# Altium schematic symbol library Master JULY2019.SchLib: 264 symbols (part 4 of 4)
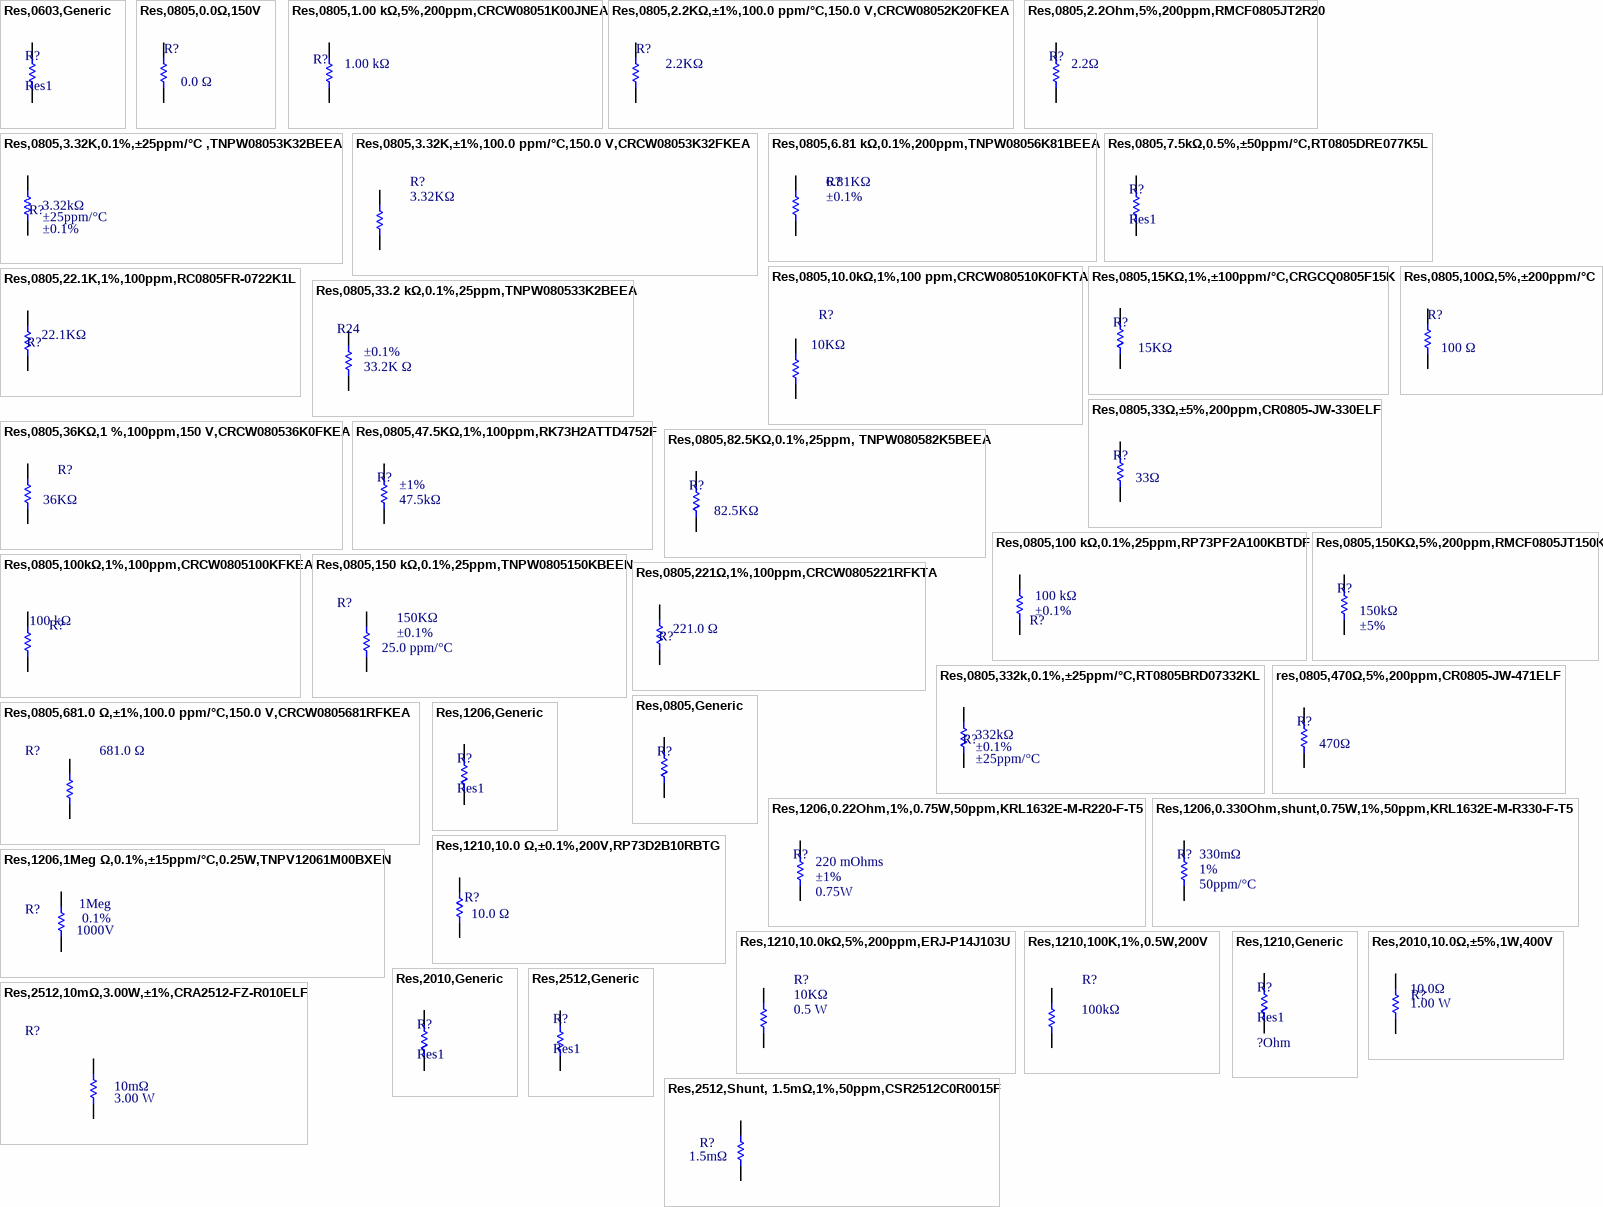
[diagram p12: symbols Res,0603,Generic to Res,2512,Shunt, 1.5mΩ,1%,50ppm,CSR2512C0R0015F]

## Res,0805,1.00 kΩ,5%,200ppm,CRCW08051K00JNEA
designator R?, comment Resistance: 1.00 kΩ  (hidden comment: Vishay CRCW08051K00JNEA)
Res Thick Film 0805 1K Ohm 5% 0.125W(1/8W) ±200ppm/C Molded SMD Automotive Paper T/R; Power Rating: 125 mW; Case/Package (SI): 2012; Lead-Free Status: Lead Free; Temperature Coefficient: 200 ppm/°C; Voltage Rating (DC): 150 V; Size-Width: 1.25 mm; Mounting Style: Surface Mount; REACH SVHC Compliance: No SVHC; Manufacturer Part Number: CRCW08051K00JNEA; Number of Pins: 2; Size-Height: 450 µm; Packaging: Tape & Reel (TR), Cut Tape (CT); RoHS: Compliant; Resistance Tolerance: ±5%; Case/Package: 0805; Size-Length: 2.00 mm
footprint res, 0805, HD (Resistor, 0805, High Density foot print)
pins: 1, 2

## Res,0805,2.2KΩ,±1%,100.0 ppm/°C,150.0 V,CRCW08052K20FKEA
designator R?, comment Resistance: 2.2KΩ  (hidden comment: Res1)
RES SMD 2.2K OHM 1% 1/8W 0805; Case/Package (SI): 2012; Lead-Free Status: Lead Free; Power Rating: 0.125 W; Temperature Coefficient: 100.0 ppm/°C; Voltage Rating (DC): 150.0 V; mfg P/N: CRCW08052K20FKEA; Case/Package: 0805; Mounting Style: Surface Mount; Number of Pins: 2; Octopart Url: https://octopart.com/crcw08052k20fkea-vishay-39783534; REACH SVHC Compliance: No SVHC; Resistance Tolerance: ±1%; RoHS: Compliant; Size-Height: 0.00045 m; Size-Length: 0.002 m; Size-Width: 0.00125 m
footprint res, 0805, HD (Resistor, 0805, High Density foot print)
pins: 1, 2
1 alternate drawing of the same symbol

## Res,0805,2.2Ohm,5%,200ppm,RMCF0805JT2R20
designator R?  Resistance: 2.2Ω  (hidden comment: *)
RES 2.2 OHM 5% 1/8W 0805; Manufacturer 1: Stackpole Electronics; Manufacturer Part Number 1: RMCF0805JT2R20; Max Power Dissipation: 125mW; Temperature Coefficient: 200ppm/°C; Supplier 1: Digi-Key; Stock 1: 13685; Pricing 1: 1=0.10000, 10=0.02000, 100=0.00820, 1000=0.00367, 2500=0.00319 (USD); RoHS: Yes; Mount: Surface Mount; Case/Package: 0805; Case Code (Metric): 2012; Case Code (Imperial): 0805; Contact Plating: Tin; Min Operating Temperature: -55°C; Max Operating Temperature: 155°C; Tolerance: 5%; Packaging: Tape and Reel; Composition: Thick Film; Number of Terminations: 2; Features: Automotive AEC-Q200; Length: 0.079inch; Height: 0.026inch; Width: 0.049inch; Radiation Hardening: No; Lead Free: Lead Free; ComponentLink1URL: https://www.seielect.com/catalog/SEI-RMCF_RMCP.pdf?src-supplier=Avnet; ComponentLink1Description: https://www.seielect.com/catalog/SEI-RMCF_RMCP.pdf?src-supplier=Avnet; ComponentLink2URL: https://www.seielect.com/Catalog/SEI-RMCF_RMCP.pdf?src-supplier=Digi-Key; ComponentLink2Description: https://www.seielect.com/Catalog/SEI-RMCF_RMCP.pdf?src-supplier=Digi-Key; ComponentLink3URL: https://www.seielect.com/catalog/SEI-Packaging.pdf?src-supplier=Digi-Key; ComponentLink3Description: https://www.seielect.com/catalog/SEI-Packaging.pdf?src-supplier=Digi-Key; Supplier Part Number 1: RMCF0805JT2R20CT-ND
footprint res, 0805, HD (Resistor, 0805, High Density foot print)
pins: 1, 2

## Res,0805,3.32K,0.1%,±25ppm/°C ,TNPW08053K32BEEA
designator R?, comment Temperature Coefficient: ±25ppm/°C  Resistance: 3.32kΩ  Resistance Tolerance: ±0.1%  (hidden comment: Vishay Dale TNPW08053K32BEEA)
RES SMD 3.32K OHM 0.1% 1/8W 0805; Lead-Free Status: Lead Free; Power Rating: 0.125 W; Voltage Rating (DC): 75.0 V; Case/Package: 0805; Octopart Url: https://octopart.com/tnpw08053k32beea-vishay-42327873; Packaging: Tape & Reel (TR); RoHS: Compliant
footprint res, 0805, HD (Resistor, 0805, High Density foot print)
pins: 1, 2
1 alternate drawing of the same symbol

## Res,0805,3.32K,±1%,100.0 ppm/°C,150.0 V,CRCW08053K32FKEA
designator R?, comment Resistance: 3.32KΩ  (hidden comment: Res1)
RES SMD 3.32K OHM 1% 1/8W 0805; Case/Package (SI): 2012; Lead-Free Status: Lead Free; Power Rating: 0.125 W; Temperature Coefficient: 100.0 ppm/°C; Voltage Rating (DC): 150.0 V; mfg P/N: CRCW08053K32FKEA; Case/Package: 0805; Mounting Style: Surface Mount; Number of Pins: 2; Octopart Url: https://octopart.com/crcw08053k32fkea-vishay-39436860; REACH SVHC Compliance: No SVHC; Resistance Tolerance: ±1%; RoHS: Compliant; Size-Height: 0.00045 m; Size-Length: 0.002 m; Size-Width: 0.00125 m
footprint res, 0805, HD (Resistor, 0805, High Density foot print)
pins: 1, 2
1 alternate drawing of the same symbol

## Res,0805,6.81 kΩ,0.1%,200ppm,TNPW08056K81BEEA
designator R?, comment Resistance: 6.81KΩ  Resistance Tolerance: ±0.1%  (hidden comment: Res1)
Thin Film Resistors - SMD 6.81Kohms .1% 25ppm; Power Rating: 0.125 W; Voltage Rating (DC): 75.0 V; Temperature Coefficient: ±25ppm/°C; Power (Watts): 0.2W; Case/Package: 0805; Packaging: Tape & Reel (TR); RoHS: Compliant
footprint res, 0805, HD (Resistor, 0805, High Density foot print)
pins: 1, 2
1 alternate drawing of the same symbol

## Res,0805,7.5kΩ,0.5%,±50ppm/°C,RT0805DRE077K5L
designator R?, comment Res1
RES SMD 7.5K OHM 0.5% 1/8W 0805; Manufacturer: Yageo; mfg P/N: RT0805DRE077K5L; Detailed Description: 7.5 kOhms ±0.5% 0.125W, 1/8W Chip Resistor 0805 (2012 Metric) Thin Film; Categories: Resistors   Chip Resistor - Surface Mount; Resistance: 7.5 kΩ; Power (Watts): 0.125W, 1/8W; Temperature Coefficient: ±50ppm/°C; Package / Case 0805: (2012 Metric); Part Status: Active; Tolerance: ±0.5%; Composition: Thin Film; Operating Temperature: -55°C ~ 155°C; Supplier Device Package: 0805; Size / Dimension: 0.079" L x 0.049" W (2.00mm x 1.25mm); Height - Seated (Max): 0.024" (0.60mm); Number of Terminations: 2
footprint res, 0805, HD (Resistor, 0805, High Density foot print)
pins: 1, 2

## Res,0805,10.0kΩ,1%,100 ppm,CRCW080510K0FKTA
designator R?, comment Resistance: 10KΩ  (hidden comment: Vishay / Dale CRCW080510K0FKTA)
RES SMD 10K OHM 1% 1/8W 0805; Temperature Coefficient: 100.0 ppm/C; Lead-Free Status: Contains Lead; Voltage Rating (DC): 150.0 V; Power Rating: 0.125 W; Case/Package (SI): 2012; Size-Width: 0.00125 m; Resistance Tolerance: 1%; Size-Length: 0.002 m; RoHS: Non-Compliant; Power Dissipation: 0.125 W; Number of Pins: 2; REACH SVHC Compliance: No SVHC; Size-Height: 0.00045 m; Case/Package: 0805; Mounting Style: Surface Mount
footprint res, 0805, HD (Resistor, 0805, High Density foot print)
pins: 1, 2

## Res,0805,15KΩ,1%,±100ppm/°C,CRGCQ0805F15K
designator R?, comment Resistance: 15KΩ  (hidden comment: CRGCQ0805F15K)
15 kOhms ±1% 0.125W, 1/8W Chip Resistor 0805 (2012 Metric) Automotive AEC-Q200, Moisture Resistant Thick Film; Temperature Coefficient: ±100ppm/°C; mfg P/N: CRGCQ0805F15K; Tolerance: ±1%; Power (Watts): 0.125W, 1/8W; Composition: Thick Film; Features: Automotive AEC-Q200, Moisture Resistant; Operating Temperature: -55°C ~ 155°C; Package / Case: 0805 (2012 Metric); Supplier Device Package: 0805
footprint res, 0805, HD (Resistor, 0805, High Density foot print)
pins: 1, 2

## Res,0805,22.1K,1%,100ppm,RC0805FR-0722K1L
designator R?, comment Resistance: 22.1KΩ  (hidden comment: RC0805FR-0722K1L)
22.1 kOhms ±1% 0.125W, 1/8W Chip Resistor 0805 (2012 Metric) Moisture Resistant Thick Film; Case/Package (SI): 2012; Temperature Coefficient: 100.0 ppm/°C; Voltage Rating (DC): 150.0 V; Case/Package: 0805; Mounting Style: Surface Mount; Number of Pins: 2; Power Rating: 0.125 W; Resistance Tolerance: ±1%; Size-Height: 0.00045 m; Size-Length: 0.002 m; Size-Width: 0.00125 m; Features: Moisture Resistant; Operating Temperature: -55°C ~ 155°C
footprint res, 0805, HD (Resistor, 0805, High Density foot print)
pins: 1, 2
1 alternate drawing of the same symbol

## Res,0805,33.2 kΩ,0.1%,25ppm,TNPW080533K2BEEA
designator R24, comment Resistance: 33.2K Ω  Resistance Tolerance: ±0.1%  (hidden comment: Vishay Dale TNPW080533K2BEEA)
Thin Film Resistors - SMD 33.2Kohms .1% 25ppm; Lead-Free Status: Lead Free; Power Rating: 0.125 W; Voltage Rating (DC): 75.0 V; Temperature Coefficient: ±25ppm/°C; Power (Watts): 0.2W; Case/Package: 0805; Packaging: Tape & Reel (TR); RoHS: Compliant
footprint res, 0805, HD (Resistor, 0805, High Density foot print)
pins: 1, 2
1 alternate drawing of the same symbol

## Res,0805,33Ω,±5%,200ppm,CR0805-JW-330ELF
designator R?, comment Resistance: 33Ω  (hidden comment: CR0805-JW-330ELF)
RES SMD 33 OHM 5% 1/8W 0805; Manufacturer: Bourns Inc.; Detailed Description: 33 Ohms ±5% 0.125W, 1/8W Chip Resistor 0805 (2012 Metric) Moisture Resistant Thick Film; Categories: Resistors   Chip Resistor - Surface Mount; Power (Watts): 0.125W, 1/8W; Temperature Coefficient: ±200ppm/°C; mfg P/N: CR0805-JW-330ELF; Series: CR0805; Part Status: Active; Tolerance: ±5%; Composition: Thick Film; Features: Moisture Resistant; Operating Temperature: -55°C ~ 155°C; Package / Case: 0805 (2012 Metric); Supplier Device Package: 0805; Size / Dimension: 0.079" L x 0.049" W (2.00mm x 1.25mm); Height - Seated (Max): 0.024" (0.60mm); Number of Terminations: 2; Base Part Number: CR0805
footprint res, 0805, HD (Resistor, 0805, High Density foot print)
pins: 1, 2

## Res,0805,36KΩ,1 %,100ppm,150 V,CRCW080536K0FKEA
designator R?, comment Resistance: 36KΩ  (hidden comment: Vishay Dale CRCW080536K0FKEA)
RES SMD 36K OHM 1% 1/8W 0805; Brand: Vishay / Dale; Voltage Rating: 150 V; Case Height: 0.45 mm; Case Length: 2 mm; Power Rating: 125 mW (1/8 W); Unit Weight: 0.000194 oz; CiivaID: 1867605; Case Width: 1.25 mm; Temperature Coefficient: 100 PPM / K; Operating Temperature Range: - 55 C to + 155 C; Termination Style: SMD/SMT; Manufacturer: Vishay; Product Category: Thick Film Resistors - SMD; Case Code - in: 0805; Tolerance: 1 %; Packaging: Reel; Factory Pack Quantity: 5000; Dimensions: 1.25 mm W x 2 mm L x 0.45 mm H; Ciiva URL: https://ciiva.com/part/crcw080536k0fkea-1867605; Package / Case: 0805 (2012 metric); Case Code - mm: 2012; mfg P\N: CRCW080536K0FKEA; Series: CRCW; Product: Thick Film Resistors SMD; RoHS: Details
footprint res, 0805, HD (Resistor, 0805, High Density foot print)
pins: 1, 2
1 alternate drawing of the same symbol

## Res,0805,47.5KΩ,1%,100ppm,RK73H2ATTD4752F
designator R?, comment Resistance: 47.5kΩ  Tolerance: ±1%  (hidden comment: RK73H2ATTD4752F)
47.5 kOhms ±1% 0.25W, 1/4W Chip Resistor 0805 (2012 Metric) Automotive AEC-Q200, Moisture Resistant Thick Film; Manufacturer: KOA Speer Electronics, Inc.; Temperature Coefficient: ±100ppm/°C; Detailed Description: 47.5 kOhms ±1% 0.25W, 1/4W Chip Resistor 0805 (2012 Metric) Automotive AEC-Q200, Moisture Resistant Thick Film; mfg P/N: RK73H2ATTD4752F; Power (Watts): 0.25W, 1/4W; Composition: Thick Film; Features: Automotive AEC-Q200, Moisture Resistant; Operating Temperature: -55°C ~ 155°C; Package / Case 0805: (2012 Metric); Supplier Device Package: 0805; Size / Dimension: 0.079" L x 0.049" W (2.00mm x 1.25mm); Height - Seated (Max): 0.024" (0.60mm); Number of Terminations: 2
footprint res, 0805, HD (Resistor, 0805, High Density foot print)
pins: 1, 2

## Res,0805,82.5KΩ,0.1%,25ppm, TNPW080582K5BEEA
designator R?, comment Resistance: 82.5KΩ  (hidden comment: TNPW080582K5BEEA)
82.5 kOhms ±0.1% 0.2W, 1/5W Chip Resistor 0805 (2012 Metric) Anti-Sulfur, Automotive AEC-Q200, Moisture Resistant Thin Film; Manufacturer: Vishay Dale; Temperature Coefficient: ±25ppm/°C; mfg P/N: TNPW080582K5BEEA; Tolerance: ±0.1%; Power (Watts): 0.2W, 1/5W; Composition: Thin Film; Features: Anti-Sulfur, Automotive AEC-Q200, Moisture Resistant; Operating Temperature: -55°C ~ 155°C; Package / Case: 0805 (2012 Metric); Supplier Device Package: 0805
footprint res, 0805, HD (Resistor, 0805, High Density foot print)
pins: 1, 2

## Res,0805,100 kΩ,0.1%,25ppm,RP73PF2A100KBTDF
designator R?, comment Resistance: 100 kΩ  Resistance Tolerance: ±0.1%  (hidden comment: TE Connectivity RP73PF2A100KBTDF)
Surface Mount Thin Film Resistor, RP73 Series, 100 kohm, 250 mW, - 0.1%, 150 V; Voltage Rating (DC): 150 V; Power Rating: 250 mW; ELV Compliant: Compliant; Temperature Coefficient: ±25ppm/°C; RoHS: Compliant; Manufacturer Part Number: RP73PF2A100KBTDF; Case/Package: 0805, 2012; Mounting Style: Surface Mount; Lifecycle Status: Active; Packaging: Tape & Reel (TR); REACH SVHC Compliance: No SVHC
footprint res, 0805, HD (Resistor, 0805, High Density foot print)
pins: 1, 2

## Res,0805,100kΩ,1%,100ppm,CRCW0805100KFKEA
designator R?  Resistance: 100 kΩ  (hidden comment: Res,0805,100kΩ,1%,100ppm,CRCW0805100KFKEA)
100 kOhms ±1% 0.125W, 1/8W Chip Resistor 0805 (2012 Metric) Thick Film; Manufacturer: Vishay; Lead-Free Status: Lead Free; Case/Package (SI): 2012; Power Rating: 125 mW; Temperature Coefficient: -100 ppm/°C to 100 ppm/°C; Resistance Tolerance: ±1%; RoHS: Compliant; Manufacturer Part Number: CRCW0805100KFKEA; Number of Pins: 2; Size-Length: 2.00 mm; Packaging: Tape & Reel (TR), Reel, Cut Tape (CT); Size-Height: 450 µm; Case/Package: 0805; Size-Width: 1.25 mm; Operating Temperature: 150 °C (max); Supplier 1 Part Number: 679-0803; Supplier 1: RS
footprint res, 0805, HD (Resistor, 0805, High Density foot print)
pins: 1, 2

## Res,0805,100Ω,5%,±200ppm/°C
designator R?, comment Resistance: 100 Ω  (hidden comment: CRCW0805100RJNEAC)
RES 100 OHM 5% 1/8W 0805; Lead-Free Status: Lead Free; Power Rating: 0.125 W; Detailed Description: 100 Ohms ±5% 0.125W, 1/8W Chip Resistor 0805 (2012 Metric) Thick Film; Temperature Coefficient: ±200ppm/°C; Case/Package: 0805 (2012 Metric); Number of Pins: 2; RoHS: Compliant; mfg P/N: CRCW0805100RJNEAC; Tolerance: ±5%; Operating Temperature: -55°C ~ 155°C
footprint res, 0805, HD (Resistor, 0805, High Density foot print)
pins: 1, 2
1 alternate drawing of the same symbol

## Res,0805,150 kΩ,0.1%,25ppm,TNPW0805150KBEEN
designator R?, comment Resistance: 150KΩ  Resistance Tolerance: ±0.1%  Temperature Coefficient: 25.0 ppm/°C  (hidden comment: Vishay Dale TNPW0805150KBEEN)
RES SMD 150K OHM 0.1% 1/8W 0805; Case/Package (SI): 2012; Lead-Free Status: Lead Free; Power Rating: 0.125 W; Voltage Rating (DC): 100.0 V; Case/Package: 0805; RoHS: Compliant
footprint res, 0805, HD (Resistor, 0805, High Density foot print)
pins: 1, 2
1 alternate drawing of the same symbol

## Res,0805,150KΩ,5%,200ppm,RMCF0805JT150K
designator R?, comment Resistance: 150kΩ  Tolerance: ±5%  (hidden comment: RMCF0805JT150K)
RES 150K OHM 5% 1/8W 0805; Manufacturer: Stackpole Electronics Inc; Detailed Description: 150 kOhms ±5% 0.125W, 1/8W Chip Resistor 0805 (2012 Metric) Automotive AEC-Q200 Thick Film; Power (Watts): 0.125W, 1/8W; Temperature Coefficient: ±200ppm/°C; mfg P/N: RMCF0805JT150K; Part Status: Active; Composition: Thick Film; Features: Automotive AEC-Q200; Operating Temperature: -55°C ~ 155°C; Package / Case: 0805 (2012 Metric); Supplier Device: 0805; Size / Dimension: 0.079" L x 0.049" W (2.00mm x 1.25mm); Height - Seated (Max): 0.026" (0.65mm); Number of Terminations: 2
footprint res, 0805, HD (Resistor, 0805, High Density foot print)
pins: 1, 2

## Res,0805,221Ω,1%,100ppm,CRCW0805221RFKTA
designator R?, comment Resistance: 221.0 Ω  (hidden comment: Vishay Dale CRCW0805221RFKTA)
RES SMD 221 OHM 1% 1/8W 0805; Case/Package (SI): 2012; Lead-Free Status: Contains Lead; Power Dissipation: 0.125 W; Temperature Coefficient: 100.0 ppm/°C; Voltage Rating (DC): 150.0 V; Case/Package: 0805; Mounting Style: Surface Mount; Number of Pins: 2; Power Rating: 0.125 W; Resistance Tolerance: ±1%; RoHS: Non-Compliant; Size-Height: 0.00045 m; Size-Length: 0.002 m; Size-Width: 0.00125 m
footprint res, 0805, HD (Resistor, 0805, High Density foot print)
pins: 1, 2
1 alternate drawing of the same symbol

## Res,0805,332k,0.1%,±25ppm/°C,RT0805BRD07332KL
designator R?, comment Temperature Coefficient: ±25ppm/°C  Resistance: 332kΩ  Resistance Tolerance: ±0.1%  (hidden comment: Res1)
Thin Film Resistors - SMD 1/8W 332K ohm .1% 25ppm; Case/Package (SI): 2012; Lead-Free Status: Lead Free; Power Rating: 0.125 W; Voltage Rating (DC): 150.0 V; Case/Package: 0805; Mounting Style: Surface Mount; Octopart Url: https://octopart.com/rt0805brd07332kl-yageo-1395583; RoHS: Compliant; Size-Height: 0.0005 m; Size-Length: 0.002 m; Size-Width: 0.00125 m
footprint res, 0805, HD (Resistor, 0805, High Density foot print)
pins: 1, 2
1 alternate drawing of the same symbol

## res,0805,470Ω,5%,200ppm,CR0805-JW-471ELF
designator R?, comment Resistance: 470Ω  (hidden comment: Res1)
RES SMD 470 OHM 5% 1/8W 0805; Manufacturer: Bourns Inc.; mfg P/N: CR0805-JW-471ELF; Detailed Description: 470 Ohms ±5% 0.125W, 1/8W Chip Resistor 0805 (2012 Metric) Moisture Resistant Thick Film; Categories: Resistors   Chip Resistor - Surface Mount; Power (Watts): 0.125W, 1/8W; Temperature Coefficient: ±200ppm/°C; Part Status: Active; Tolerance: ±5%; Composition: Thick Film; Features: Moisture Resistant; Operating Temperature: -55°C ~ 155°C; Package / Case: 0805 (2012 Metric); Supplier Device Package: 0805; Size / Dimension: 0.079" L x 0.049" W (2.00mm x 1.25mm); Height - Seated (Max): 0.024" (0.60mm); Number of Terminations: 2; Base Part Number: CR0805
footprint res, 0805, HD (Resistor, 0805, High Density foot print)
pins: 1, 2

## Res,0805,681.0 Ω,±1%,100.0 ppm/°C,150.0 V,CRCW0805681RFKEA
designator R?, comment Resistance: 681.0 Ω  (hidden comment: Res1)
RES SMD 681 OHM 1% 1/8W 0805; Case/Package (SI): 2012; Lead-Free Status: Lead Free; Power Rating: 0.125 W; Temperature Coefficient: 100.0 ppm/°C; Voltage Rating (DC): 150.0 V; mfg P/N: CRCW0805681RFKEA; Case/Package: 0805; Mounting Style: Surface Mount; Number of Pins: 2; Octopart Url: https://octopart.com/crcw0805681rfkea-vishay-39820193; REACH SVHC Compliance: No SVHC; Resistance Tolerance: ±1%; RoHS: Compliant; Size-Height: 0.00045 m; Size-Length: 0.002 m; Size-Width: 0.00125 m
footprint res, 0805, HD (Resistor, 0805, High Density foot print)
pins: 1, 2
1 alternate drawing of the same symbol

## Res,0805,Generic
designator R?, comment Res1  (value not drawn)
Resistance: ?; Tolerance: *; PPM: *; Wattage: *
footprint res, 0805, HD (Resistor, 0805, High Density foot print)
pins: 1, 2

## Res,1206,0.22Ohm,1%,0.75W,50ppm,KRL1632E-M-R220-F-T5
designator R?, comment Resistance: 220 mOhms  Tolerance: ±1%  Power (Watts): 0.75W  (hidden comment: KRL1632E-M-R220-F-T5)
RES 0.22 OHM 1% 3/4W 1206; Manufacturer: Susumu; Detailed Description: 220 mOhms ±1% 0.75W, 3/4W Chip Resistor 1206 (3216 Metric) Automotive AEC-Q200, Current Sense Metal Foil; mfg P/N: KRL1632E-M-R220-F-T5; Part Status: Active; Composition: Metal Foil; Features: Automotive AEC-Q200, Current Sense; Temperature: Coefficient ±50ppm/°C; Operating Temperature: -55°C ~ 155°C; Package / Case: 1206 (3216 Metric); Supplier Device Package: 1206; Size / Dimension: 0.126" L x 0.063" W (3.20mm x 1.60mm); Height - Seated (Max): 0.028" (0.70mm); Number of Terminations: 2
footprint Res,1206 (1206 resistor)
pins: 1, 2

## Res,1206,0.330Ohm,shunt,0.75W,1%,50ppm,KRL1632E-M-R330-F-T5
designator R?  Resistance: 330mΩ  Tolerance: 1%  Temperature Coefficient: 50ppm/°C  (hidden comment: *)
RES 0.33 OHM 1% 3/4W 1206; Manufacturer 1: Susumu; Manufacturer Part Number 1: KRL1632E-M-R330-F-T5; Power Rating: 750mW; Supplier 1: Digi-Key; Stock 1: 23015; Pricing 1: 1=0.54000, 10=0.38500, 25=0.30040, 50=0.25420, 100=0.20020, 250=0.16940, 500=0.13860, 1000=0.10780 (USD); RoHS: Yes; Case/Package: Metal; Weight: 0.000466oz; Case Code (Metric): 1632; Case Code (Imperial): 0612; Min Operating Temperature: -55°C; Max Operating Temperature: 155°C; Packaging: Tape and Reel; Composition: Metal Foil; Termination: SMD/SMT; Length: 3.2mm; Height: 0.5mm; Width: 1.6mm; Lead Free: Lead Free; ComponentLink1URL: http://www.mouser.com/ds/2/392/KRL_New_Short_Data_sheet-1115627.pdf?src-supplier=Mouser; ComponentLink1Description: http://www.mouser.com/ds/2/392/KRL_New_Short_Data_sheet-1115627.pdf?src-supplier=Mouser; ComponentLink2URL: http://www.susumu-usa.com/pdf/Foot_Print_21.pdf?src-supplier=Digi-Key; ComponentLink2Description: http://www.susumu-usa.com/pdf/Foot_Print_21.pdf?src-supplier=Digi-Key; Supplier Part Number 1: 408-1588-1-ND
footprint 1206 (Footprint not found)
footprint Res,1206 (CAPC3216X127X50ML20T25)
pins: 1, 2

## Res,1206,1Meg Ω,0.1%,±15ppm/°C,0.25W,TNPV12061M00BXEN
designator R?, comment Resistance: 1Meg  Max Voltage Rating: 1000V  Tolerance: 0.1%  (hidden comment: TNPV12061M00BXEN)
RES SMD 1M OHM 0.1% 1/4W 1206; Temperature Coefficient: ±15ppm/°C; Power (Watts): 0.25W; Manufacturer Part Number: TNPV12061M00BXEN; Package / Case: 1206 (3216 Metric); Composition: Thin Film; Features: Anti-Sulfur, Automotive AEC-Q200, High Voltage, Moisture Resistant; Operating Temperature: -55°C ~ 125°C; Supplier Device Package: 1206
footprint Res,1206 (CAPC3216X127X50ML20T25)
pins: 1, 2

## Res,1206,Generic
designator R?, comment Res1
footprint Res,1206 (CAPC3216X127X50ML20T25)
pins: 1, 2

## Res,1210,10.0 Ω,±0.1%,200V,RP73D2B10RBTG
designator R?, comment Resistance: 10.0 Ω  (hidden comment: RP73D2B10RBTG)
Surface Mount Thin Film Resistor, RP73 Series, 10 ohm, 250 mW, - 0.1%, 200 V; Power Rating: 250 mW; ELV Compliant: Compliant; Voltage Rating (DC): 200 V; RoHS: Compliant; Packaging: Cut Tape (CT); Lifecycle Status: Active; Octopart URL: http://octopart.com/rp73d2b10rbtg-te+connectivity+%2F+holsworthy-42012238; Number of Pins: 2; REACH SVHC Compliance: No SVHC; Manufacturer Part Number: RP73D2B10RBTG; Resistance Tolerance: ±0.1%; Case/Package: 1206
footprint Res,1210 (Resistor 1210 footprint)
pins: 1, 2

## Res,1210,10.0kΩ,5%,200ppm,ERJ-P14J103U
designator R?, comment Power Rating: 0.5 W  Resistance: 10KΩ  (hidden comment: Res1)
Thick Film Resistors - SMD 1210 10Kohms 0.5W 5% Tol; Lead-Free Status: Lead Free; Voltage Rating (DC): 200.0 V; Temperature Coefficient: ±200ppm/°C; Case/Package: 1210; Lifecycle Status: Not Listed by Manufacturer; Mounting Style: Surface Mount; Packaging: Cut Tape (CT); Resistance Tolerance: ±5%; RoHS: Compliant; Size-Height: 0.0006 m; Size-Length: 0.0032 m; Size-Width: 0.0025 m
footprint Res,1210 (Resistor 1210 footprint)
pins: 1, 2
1 alternate drawing of the same symbol

## Res,1210,100K,1%,0.5W,200V
designator R?, comment Resistance: 100kΩ  (hidden comment: Res1)
Thick Film Resistors - SMD 1210 100Kohms 1% Tol; Lead-Free Status: Lead Free; Voltage Rating (DC): 200.0 V; Power Rating: 0.5 W; Case/Package: 1210; Lifecycle Status: Not Listed by Manufacturer; Mounting Style: Surface Mount; Octopart Url: https://octopart.com/erj-14nf1003u-panasonic-55419081; Packaging: Cut Tape (CT); REACH SVHC Compliance: No SVHC; Resistance Tolerance: ±1%; RoHS: Compliant; Size-Height: 0.0006 m; Size-Length: 0.0032 m; Size-Width: 0.0025 m
footprint Res,1210 (Resistor 1210 footprint)
pins: 1, 2
1 alternate drawing of the same symbol

## Res,1210,Generic
designator R?, comment Res1  Res: ?Ohm
footprint Res,1210 (Resistor 1210 footprint)
pins: 1, 2

## Res,2010,10.0Ω,±5%,1W,400V
designator R?, comment Power Rating: 1.00 W  Resistance: 10.0Ω  (hidden comment: Bourns CRS2010-JX-100ELF)
Surface Mount Chip Resistor, Thick Film, CRS Series, 10 ohm, 1 W, 5%, 400 V, 2010 [5025 Metric]; Voltage Rating (DC): 400 V; Octopart URL: http://octopart.com/crs2010-jx-100elf-bourns-55399185; Manufacturer Part Number: CRS2010-JX-100ELF; REACH SVHC Compliance: No SVHC; RoHS: Compliant; Resistance Tolerance: ±5%; Packaging: Cut Tape (CT); Case/Package: 2010; OctopartID: 196dd32a6f1ac6aa
footprint Resistor,2010,1W
pins: 1, 2

## Res,2010,Generic
designator R?, comment Res1
footprint Resistor,2010,1W
pins: 1, 2

## Res,2512,10mΩ,3.00W,±1%,CRA2512-FZ-R010ELF
designator R?, comment Power Rating: 3.00 W  Resistance: 10mΩ  (hidden comment: Res1)
Resistor; Metal Film; Res 0.01 Ohms; Pwr-Rtg 3 W; Tol 1%; SMT; 2512; Current Sense; Manufacturer Part Number: CRA2512-FZ-R010ELF; Case/Package (SI): 2512; Resistance Tolerance: ±1%; Octopart URL: http://octopart.com/cra2512-fz-r010elf-bourns-7483589; Packaging: Tape & Reel (TR), Cut Tape (CT); REACH SVHC Compliance: No SVHC; RoHS: Compliant; Number of Pins: 2; Mounting Style: Surface Mount; Case/Package: 1005
footprint Res 2512 (SMD RESISTOR - THICK FILM)
pins: 1, 2

## Res,2512,Generic
designator R?, comment Res1
footprint Res 2512 (SMD RESISTOR - THICK FILM)
pins: 1, 2

## Res,2512,Shunt, 1.5mΩ,1%,50ppm,CSR2512C0R0015F
designator R?, comment Resistance: 1.5mΩ  (hidden comment: Riedon CSR2512C0R0015F)
Res 2512 0.0015 Ohm 1% 3W ±50ppm/C Pad SMD T/R; Resistance: 1.5 mOhms; Temperature Coefficient: ±50ppm/°C; Manufacturer Part Number: CSR2512C0R0015F; Packaging: Tape & Reel (TR); Power (Watts): 3W; Tolerance: ±1%; Features: Current Sense; Package / Case: 2512 (6432 Metric); Manufacturer: Riedon
footprint Shunt,2512,SMD,Kalvin conn (0.250" L x 0.118" W (6.35mm x 3.00mm))
pins: 1, 2

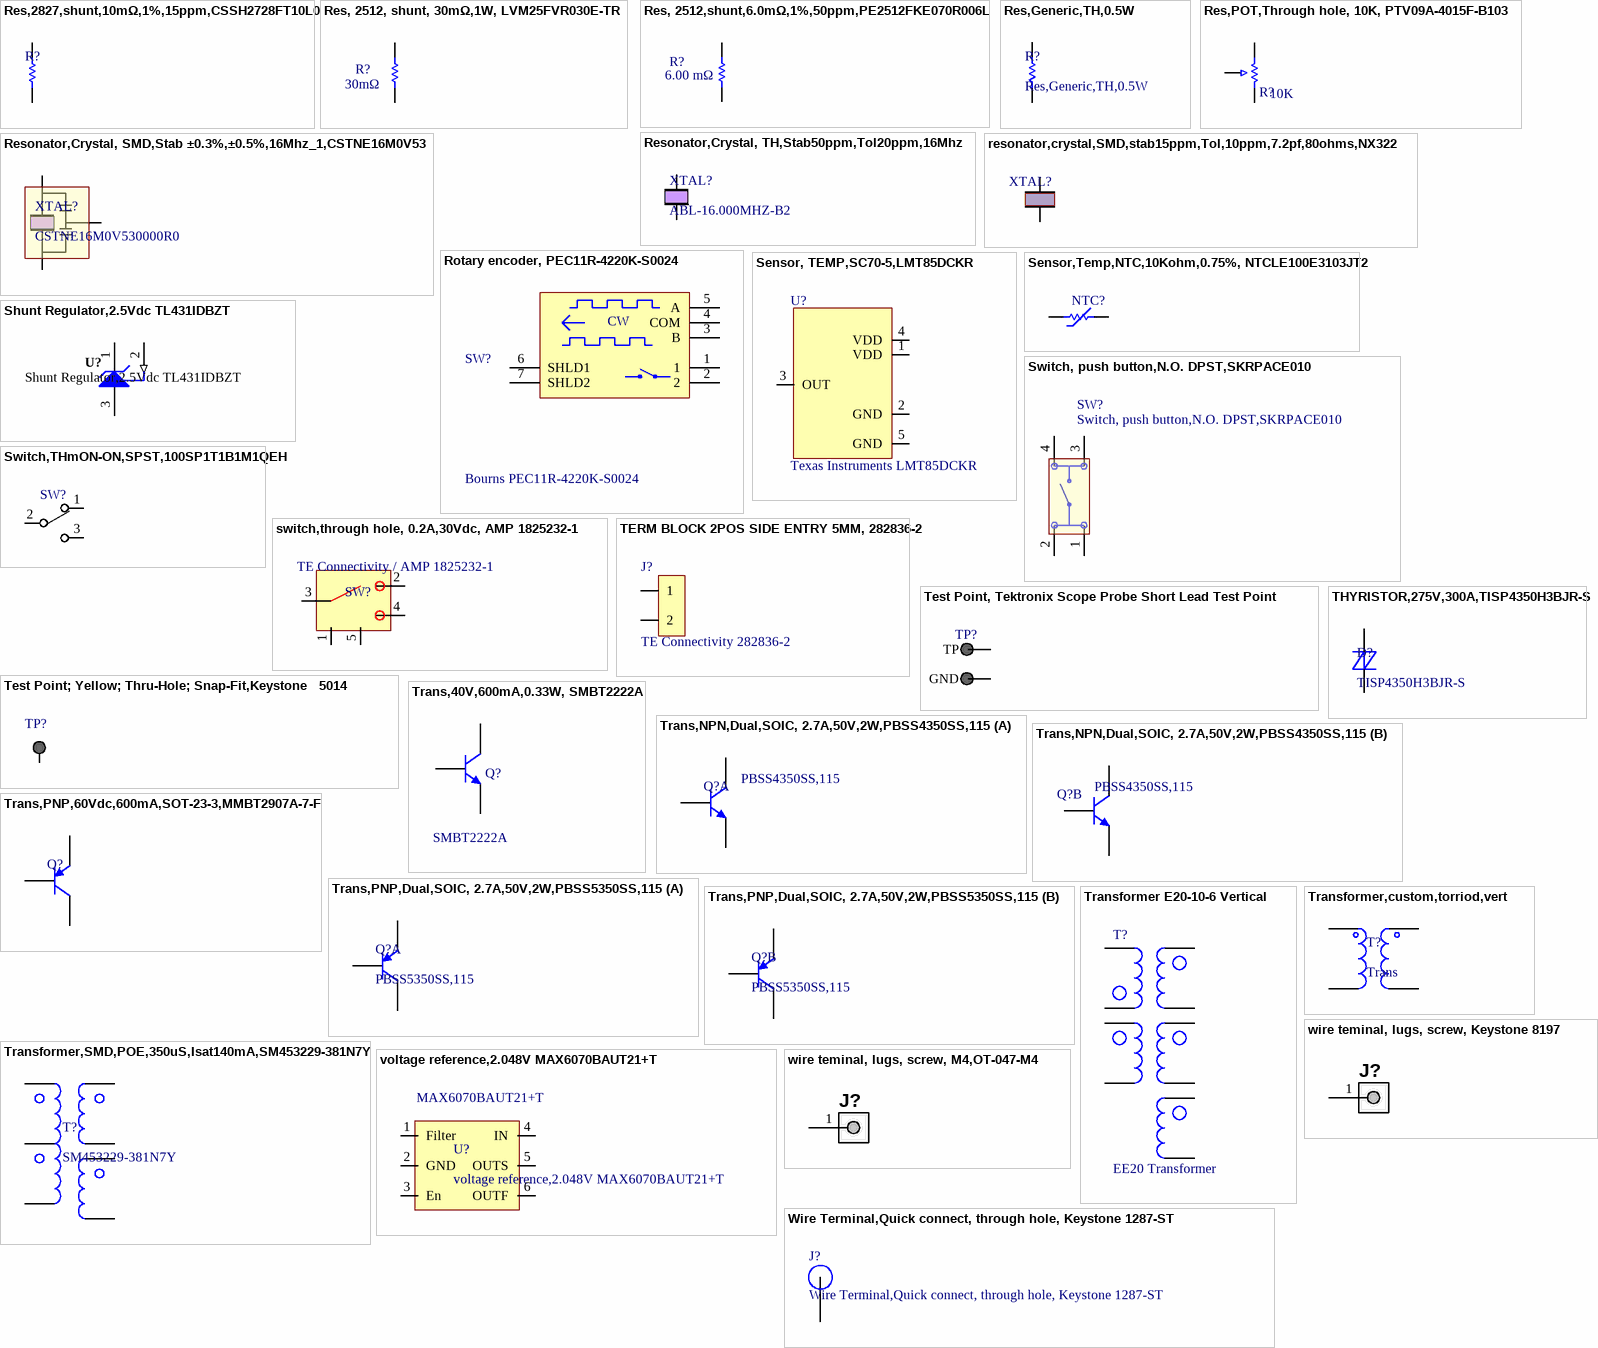
[diagram p9: symbols Res,2827,shunt,10mΩ,1%,15ppm,CSSH2728FT10L0 to Wire Terminal,Quick connect, through hole, Keystone 1287-ST]

## Res,2827,shunt,10mΩ,1%,15ppm,CSSH2728FT10L0
designator R?, comment CSSH2728FT10L0  (value not drawn)
10 mOhms ±1% 4W Chip Resistor Wide 2827 (7067 Metric), 2728 Automotive AEC-Q200, Current Sense Metal Foil; Temperature Coefficient: ±15ppm/°C; Other Names: CSSH 2728 0.01 1% R   CSSH27280.011%RTR   CSSH27280.011%RTR-ND   CSSH27280.01FRTR   CSSH27280.01FRTR-ND   CSSH2728FT10L0TR; mfg P/N: CSSH2728FT10L0; Resistance: 10 mOhms; Tolerance: ±1%; Power (Watts): 4W; Composition: Metal Foil; Features: Automotive AEC-Q200, Current Sense; Operating Temperature: -55°C ~ 225°C; Package / Case: Wide  2827 (7067 Metric), 2728
footprint Res,2827,4W
pins: 1, 2

## Res, 2512, shunt, 30mΩ,1W, LVM25FVR030E-TR
designator R?, comment Resistance: 30mΩ  (hidden comment: Ohmite LVM25FVR030E-TR)
Resistors; Current Sense; SMD 1W 0.030 OHM 1%; Octopart URL: https://octopart.com/lvm25fvr030e-tr-ohmite-74199670; Manufacturer Part Number: LVM25FVR030E-TR; OctopartID: ee9623f0f9863151; Power Rating: 1W
footprint Shunt,2512,SMD,Kalvin conn (0.250" L x 0.118" W (6.35mm x 3.00mm))
pins: 1, 2

## Res, 2512,shunt,6.0mΩ,1%,50ppm,PE2512FKE070R006L
designator R?, comment Resistance: 6.00 mΩ  (hidden comment: Yageo PE2512FKE070R006L)
Res Metal Foil 2512 6m Ohm 1% 1W ±50ppm/°C Molded SMD Emboss T/R; Manufacturer Part Number: PE2512FKE070R006L; Case/Package: 2512; Mounting Style: Surface Mount; Packaging: Tape & Reel (7 in.); Resistance Tolerance: ±1%; Temperature Coefficient: ±50ppm/°C
footprint Shunt,2512,SMD,Kalvin conn (0.250" L x 0.118" W (6.35mm x 3.00mm))
pins: 1, 2

## Res,Generic,TH,0.5W
designator R?
footprint Res, TH, 1/2W
pins: 1, 2

## Res,POT,Through hole, 10K, PTV09A-4015F-B103
designator R?, comment Resistance: 10K  (hidden comment: Res Carbon Film POT 10K Ohm 20% 1/20W)
Res Carbon Film POT 10K Ohm 20% 1/20W 1(Elec)/1(Mech)Turn 6mm (11.4 X 12.65 X 18.8mm) Pin Bracket Mount/Through Hole; Manufacturer Part Number: PTV09A-4015F-B103; Power Rating: 50.0 mW; RoHS: Compliant; Octopart URL: http://octopart.com/ptv09a-4015f-b103-bourns-1579130
footprint 10K POT (PTV09A-4015F-B103 10K POT with 3d model)
pins: 1, 2, 3

## Resonator,Crystal, SMD,Stab ±0.3%,±0.5%,16Mhz_1,CSTNE16M0V530000R0
designator XTAL?, comment CSTNE16M0V530000R0
16MHz Ceramic Resonator Built in Capacitor 15pF ±0.3% 40 Ohms -40°C ~ 85°C Surface Mount; Manufacturer: Murata Electronics North America; Frequency Tolerance: ±0.5%; ESR (Equivalent Series Resistance): 40 Ohms; Operating Mode: Fundamental; mfg P/N: CSTNE16M0V530000R0; Series: CERALOCK® CSTNE; Type: MHz Crystal; Frequency: 16MHz; Frequency Stability: ±0.3%; Load Capacitance: 15pF; Operating Temperature: -40°C ~ 85°C; Mounting Type: Surface Mount; Package / Case: 3-SMD, Non-Standard; Size / Dimension: 0.126" L x 0.051" W (3.20mm x 1.30mm); Height - Seated (Max): 0.039" (1.00mm); Features: Built in Capacitor
footprint RESONATOR,SMD,CSTNE16M0V530000R0 (RESONATOR, CER RES 16.0000MHZ 15PF SMD)
pins: 1, 2, 3

## Resonator,Crystal, TH,Stab50ppm,Tol20ppm,16Mhz
designator XTAL?, comment ABL-16.000MHZ-B2
16MHz ±20ppm Crystal 18pF 40 Ohms HC-49/US; Manufacturer: Abracon LLC; Frequency Stability: ±50ppm; ESR (Equivalent Series Resistance): 40 Ohms; Operating Mode: Fundamental; mfg P/N: ABL-16.000MHZ-B2; Series: ABL; Type: MHz Crystal; Frequency: 16MHz; Frequency Tolerance: ±20ppm; Load Capacitance: 18pF; Operating Temperature: -20°C ~ 70°C; Mounting Type: Through Hole; Package / Case: HC-49/US; Size / Dimension: 0.453" L x 0.197" W (11.50mm x 5.00mm); Height - Seated (Max): 0.138" (3.50mm)
footprint Resonator,TH,16Mhz (16Mhz Resonator for Arduino)
pins: 1, 2

## resonator,crystal,SMD,stab15ppm,Tol,10ppm,7.2pf,80ohms,NX3225SA-16.000000MHZ-B3
designator XTAL?, comment NX3225SA-16.000000MHZ-B3  (value not drawn)
CRYSTAL 16.0000MHZ 7.2PF SMD; Manufacturer: NDK America, Inc.; Detailed Description: 16MHz ±10ppm Crystal 7.2pF 80 Ohms 4-SMD, No Lead; Frequency: 16MHz; Frequency Stability: ±15ppm; Frequency Tolerance: ±10ppm; ESR (Equivalent Series Resistance): 80 Ohms; Operating Mode: Fundamental; Categories: Crystals, Oscillators, Resonators   Crystals; mfg P/N: NX3225SA-16.000000MHZ-B3; Series: NX3225SA; Part Status: Active; Type: MHz Crystal; Load Capacitance: 7.2pF; Operating Temperature: -30°C ~ 85°C; Mounting Type: Surface Mount; Package / Case: 4-SMD, No Lead; Size / Dimension: 0.126" L x 0.098" W (3.20mm x 2.50mm); Height - Seated (Max): 0.028" (0.70mm)
footprint CRYSTAL,4-SMD, No Lead (0.126" L x 0.098" W (3.20mm x 2.50mm),NX3225SA-16.000000MHZ-B3)
pins: 1, 3

## Rotary encoder, PEC11R-4220K-S0024
designator SW?, comment Bourns PEC11R-4220K-S0024
24 Pulse Incremental Mechanical Rotary Encoder w/ 6 mm Knurl Shaft, Through Hole; Size-Width: 12.5 mm; RoHS: Compliant
footprint Rotary encoder
pins: 1, 2, 3 B "Channel B", 4 COM "Common", 5 A "Channel A", 6 SHLD1, 7 SHLD2
text: CW

## Sensor, TEMP,SC70-5,LMT85DCKR
designator U?, comment Texas Instruments LMT85DCKR
Temperature Sensor Analog, Local -50°C ~ 150°C 8.2mV/°C SC-70-5; Lead-Free Status: Lead Free; Quiescent Current: 5.40 µA; Accuracy - Highest (Lowest): ±2.7°C; Manufacturer Part Number: LMT85DCKR; RoHS: Compliant; Mounting Style: Surface Mount; Packaging: Reel; Lifecycle Status: Active; Operating Temperature: -50°C ~ 150°C; Resolution: 8.2mV/°C
footprint SC-70-5
pins: 1 VDD, 2 GND, 3 OUT, 4 VDD, 5 GND

## Sensor,Temp,NTC,10Kohm,0.75%, NTCLE100E3103JT2
designator NTC?, comment NTCLE100E3103JT2  (value not drawn)
THERMISTOR NTC 10KOHM 3977K BEAD; Manufacturer: Vishay BC Components; Detailed Description: NTC Thermistor 10k Bead; Categories: Sensors, Transducers   Temperature Sensors - NTC Thermistors; Resistance in Ohms @ 25°C: 10k; Resistance Tolerance: ±5%; B Value Tolerance: ±0.75%; Power - Max: 500mW; mfg P/N: NTCLE100E3103JT2; Part Status: Active; B25/85: 3977K; Operating Temperature: -40°C ~ 125°C; Length - Lead Wire: 0.59" (15.00mm); Mounting Type: Through Hole; Package / Case: Bead
footprint NTC,TH,2.54mm Lead Spacing,NTCLE100E3103JT2
pins: 1, 2

## Shunt Regulator,2.5Vdc TL431IDBZT
designator U?
Adjustable Precision Shunt Regulator, 34 ppm / degC, 100 mA, -40 to 85 degC, 3-pin SOT-23 (DBZ), Green (RoHS & no Sb/Br); Lead-Free Status: Lead Free; Output Current: 0.1 A; Temperature Coefficient: 34.0 ppm/°C; Case/Package: SOT-23; Lifecycle Status: Active; Number of Pins: 3; Octopart Url: https://octopart.com/tl431idbzt-texas+instruments-843706; OctopartID: acb465b256687373; Packaging: Cut Tape (CT); RoHS: Compliant; Manufacturer Part Number: TL431IDBZT
footprint SOT23-3
pins: 1 CATHODE, 2 REF (in), 3 ANODE

## Switch, push button,N.O. DPST,SKRPACE010
designator SW?
Switch Tactile N.O. SPST Button J-Bend 0.05A 16VDC 2.55N SMD Automotive T/R; Switch Function:: ON - OFF; Current Rating:: 50mA; Mounting Style: Surface Mount; Voltage Rating DC:: 16VDC; Contact Form:: DPST; mfg P/N: SKRPACE010
footprint Switch Tactile N.O. SPST Button
pins: 1, 2, 3, 4

## Switch,THmON-ON,SPST,100SP1T1B1M1QEH
designator SW?, comment 100SP1T1B1M1QEH  (value not drawn)
Toggle switch on-on 1P, 100SP1T1B1M1QEH; Circuit: SPDT; Current Rating: 5A (AC/DC); Voltage Rating - AC: 120V; Voltage Rating - DC: 28V; Actuator Type: Standard Round; Actuator Length: 10.41mm; Illumination: Non-Illuminated; Actuator Material: Brass, Chrome Plated; Electrical Life: 40,000 Cycles; mfg P/N: 100SP1T1B1M1QEH; Switch Function: On-On; Mounting Type: Panel Mount; Termination Style: Solder Lug; Panel Cutout Dimensions: Circular - 6.35mm Dia; Bushing Thread: 1/4-40; Features: Epoxy Sealed Terminals; Operating Temperature: -30°C ~ 85°C
footprint SW,TH,ON-ON,1A11-100SP1T1B1M1QEH (SWITCH TOGGLE SPDT 5A 120V)
pins: 1, 2, 3

## switch,through hole, 0.2A,30Vdc, AMP 1825232-1
designator SW?, comment TE Connectivity / AMP 1825232-1
Switch Slide ON None ON SPDT Side Slide 0.2A 30VDC 10000Cycle PC Pins Bracket Mount/Through Hole; ELV Compliant: Compliant; Manufacturer Part Number: 1825232-1; RoHS: Compliant; Mounting Style: Through Hole; Octopart URL: http://octopart.com/1825232-1-te+connectivity+%2F+amp-45209883; OctopartID: 0fe8c453f395d02f; Lifecycle Status: Active; Packaging: Tray; Contact Material: Copper Alloy; Flammability Rating: UL 94 HB
footprint AMP 1825232-1 (SWITCH SLIDE SPDT 200MA 30V)
pins: 1 "Shield", 2, 3 COM, 4, 5 "Shield"

## TERM BLOCK 2POS SIDE ENTRY 5MM, 282836-2
designator J?, comment TE Connectivity 282836-2
Wire to Board 2 Position 5 mm Pitch 30-16 AWG Euro Style Terminal Block; Voltage Rating (AC): 250.0 V; ELV Compliant: Compliant; Current Rating: 13.5 A; Number of Contacts: 2; Pin Pitch: 0.005 m; Lead-Free Status: Lead Free; Wire Gauge: 15.0 AWG; RoHS: Compliant; Contact Material: Brass; Contact Plating: Tin; Color: Green; Manufacturer Part Number: 282836-2; Flammability Rating: UL 94 V-0; Mounting Style: PCB; Housing Material: Nylon 6/6; Insulation Material: Nylon; Housing Color: Green; Orientation: Right Angle; Lifecycle Status: Active; REACH SVHC Compliance: No SVHC; Number of Positions: 2; Supplier 1: TME; Supplier 2: Newark; Supplier 3: Digi-Key
footprint TERM BLOCK 2POS SIDE ENTRY 5MM
pins: 1, 2

## Test Point, Tektronix Scope Probe Short Lead Test Point
designator TP?, comment Scope Probe TP  (value not drawn)  (no BOM)
Tektronix Scope Probe Short Lead Test Point
footprint ScopeProbe_TP-Tektronix
pins: 1 GND, 2 TP

## Test Point; Yellow; Thru-Hole; Snap-Fit,Keystone   5014
designator TP?, comment Keystone 5014  (value not drawn)
Test Point; Yellow; Thru-Hole; Snap-Fit; SilverPlate; 0.063in. Dia.; 0.445In.; Manufacturer Part Number: 5014; Gender: Male; Lead-Free Status: Lead Free; Size-Height: 11.3 mm; Contact Plating: Tin; Packaging: Bulk; RoHS: Compliant; Color: Yellow; Size-Diameter: 3.18 mm; Material: Aluminum; Octopart URL: http://octopart.com/5014-keystone-63951; Size-Length: 11.3 mm; Size-Inner Diameter: 1.78 mm; Mounting Style: Through Hole, PCB; Contact Material: Phosphor Bronze
footprint Test Point, Keystone 5014 (PC TEST POINT MULTI PURP YELLOW)
pins: 1

## THYRISTOR,275V,300A,TISP4350H3BJR-S
designator D?, comment TISP4350H3BJR-S
Voltage - Breakover: 350V; Voltage - Off State: 275V; Voltage - On State: 3V; Current - Peak Pulse (8/20µs): 300A; Current - Peak Pulse (10/1000µs): 100A; Current - Hold (Ih): 150mA; Number of Elements: 1; Capacitance: 62pF; mfg P/N: TISP4350H3BJR-S; Mounting Type: Surface Mount; Package / Case: DO-214AA, SMB
footprint DO214AA
pins: 1 A, 2 K

## Trans,40V,600mA,0.33W, SMBT2222A
designator Q?, comment SMBT2222A
NPN Silicon Switching Transistor, 40 V VCEO, 600 mA IC, SOT23, Reel, Green; Power Dissipation: 0.33 W; Voltage - Collector Emitter Breakdown (Max): 40V; Vce Saturation (Max) @ Ib, Ic: 1V @ 50mA, 500mA; Current - Collector Cutoff (Max): 10nA (ICBO); DC Current Gain (hFE) (Min) @ Ic, Vce: 100 @ 150mA, 10V; Frequency - Transition: 300MHz; Mounting Style: Surface Mount; Number of Pins: 3; Packaging: Cut Tape (CT); Polarity: NPN; REACH SVHC Compliance: No SVHC; RoHS: Compliant; Mounting Type: Surface Mount; Package / Case: TO-236-3, SC-59, SOT-23-3; Supplier Device Package: SOT-23-3; mfg P/N: SMBT2222A
footprint SOT23-3
pins: 1 B, 2 E, 3 C

## Trans,NPN,Dual,SOIC, 2.7A,50V,2W,PBSS4350SS,115
designator Q?, comment PBSS4350SS,115
Bipolar (BJT) Transistor Array 2 NPN (Dual) 50V 2.7A 2W Surface Mount 8-SO; Vce Saturation (Max) @ Ib, Ic: 340mV @ 270mA, 2.7A; Current - Collector Cutoff (Max): 100nA; DC Current Gain (hFE) (Min) @ Ic, Vce: 300 @ 1A, 2V; Transistor Type: 2 NPN (Dual); Current - Collector (Ic) (Max): 2.7A; Voltage - Collector Emitter Breakdown (Max): 50V; Power - Max: 2W; Operating Temperature: 150°C (TJ); Package / Case: 8-SOIC (0.154", 3.90mm Width); mfg P\N: PBSS4350SS,115
footprint SOIC-8 (SOIC, 8-Leads, Body 4.9x3.9mm, Pitch 1.27mm, IPC Medium Density)
part A pins: 1 E, 2 B, 7 C, 8 C
part B pins: 3 E, 4 B, 5 C, 6 C

## Trans,PNP,60Vdc,600mA,SOT-23-3,MMBT2907A-7-F
designator Q?, comment MMBT2907A-7-F  (value not drawn)
TRANS PNP 60V 0.6A SOT23-3; Detailed Description: Bipolar (BJT) Transistor PNP 60V 600mA 200MHz 300mW Surface Mount SOT-23-3; Current - Collector (Ic) (Max): 600mA; Vce Saturation (Max) @ Ib, Ic: 1.6V @ 50mA, 500mA; Current - Collector Cutoff (Max): 10nA (ICBO); DC Current Gain (hFE) (Min) @ Ic, Vce: 100 @ 150mA, 10V; Power - Max: 300mW; Frequency - Transition: 200MHz; mfg P/N: MMBT2907A-7-F; Transistor Type: PNP; Voltage - Collector Emitter Breakdown (Max): 60V; Operating Temperature: -55°C ~ 150°C (TJ); Mounting Type: Surface Mount; Package / Case: TO-236-3, SC-59, SOT-23-3; Supplier Device Package: SOT-23-3; Supplier 1: Digi-Key; Supplier Part Number 1: MMBT2907A-FDICT-ND; Supplier 2: LCSC; Supplier Part Number 2: C106923
footprint SOT23-3
pins: 1 B, 2 E, 3 C

## Trans,PNP,Dual,SOIC, 2.7A,50V,2W,PBSS5350SS,115
designator Q?, comment PBSS5350SS,115
Bipolar (BJT) Transistor Array 2 PNP (Dual) 50V 2.7A 750mW Surface Mount 8-SO; Vce Saturation (Max) @ Ib, Ic: 370mV @ 270mA, 2.7A; Current - Collector Cutoff (Max): 100nA; DC Current Gain (hFE) (Min) @ Ic, Vce: 180 @ 1A, 2V; Power - Max: 750mW-2W; mfg P/N: PBSS5350SS,115; Transistor Type: 2 PNP (Dual); Current - Collector (Ic) (Max): 2.7A; Voltage - Collector Emitter Breakdown (Max): 50V; Operating Temperature: 150°C (TJ); Package / Case: 8-SOIC (0.154", 3.90mm Width)
footprint SOIC-8 (SOIC, 8-Leads, Body 4.9x3.9mm, Pitch 1.27mm, IPC Medium Density)
part A pins: 1 E, 2 B, 7 C, 8 C
part B pins: 3 E, 4 B, 5 C, 6 C

## Transformer E20-10-6 Vertical
designator T?, comment EE20 Transformer
EE20 Transformer Assembly; Bobbin: B66206W1110T001; Mfg P/N: Custom Part; Ferrite: N97
footprint Transformer EE20, 10 Pos
pins: 1, 2, 3, 4, 5, 6, 7, 8, 9, 10

## Transformer,custom,torriod,vert
designator T?, comment Trans
custom transformer
footprint Transfromer,Torroidal,22.5mm Dia, Custom
pins: 1, 2, 3, 4

## Transformer,SMD,POE,350uS,Isat140mA,SM453229-381N7Y
designator T?, comment SM453229-381N7Y
CHIP LAN,10/100/1G XFORMER,4.7X3; Manufacturer: Bourns Inc.; Detailed Description: 350µH LAN 10/100/1000 Base-T Pulse Transformer 1:1 Surface Mount; Categories: Transformers  Pulse Transformers; Transformer Type: LAN 10/100/1000 Base-T; Inductance: 350µH; ET (Volt-Time): 50VµS; Turns Ratio - Primary:Secondary: 1:1; mfg P/N: SM453229-381N7Y; Part Status: Active; Mounting Type: Surface Mount; Height - Seated: (Max) 0.114" (2.90mm); Operating Temperature: -40°C ~ 85°C; Base Part Number: SM453229
footprint Transformer,Non-Stand,PoE,SM453229-381N7Y (350µH LAN 10/100/1000 Base-T Pulse Transformer 1:1 Surface Mount)
pins: 1, 2, 3, 4, 5, 6, 7

## voltage reference,2.048V MAX6070BAUT21+T
designator U?  mfg P/N: MAX6070BAUT21+T
IC VREF SERIES 2.048V SOT23-6; Temperature Coefficient: 8ppm/°C; Noise - 0.1Hz to 10Hz: 6.4µVp-p; Voltage - Input: 2.7 V ~ 5.5 V; Tolerance: 0.8%; Voltage - Output (Min/Fixed): 2.048V; Package / Case: SOT-23-6; Operating Temperature: -40°C ~ 125°C (TA)
footprint SOT23-6 (SOT23, 6-Leads, Body 3.0x1.7mm, Pitch 0.95mm, Lead Span 2.9mm, IPC High Density)
pins: 1 Filter, 2 GND, 3 En, 4 IN, 5 OUTS, 6 OUTF

## wire teminal, lugs, screw, Keystone 8197
designator J?  (value not drawn)
WRIGHT TOOL 8197 Socket, 1 In Dr, 3-1/8 In, 12 Pt, Std. More details: Socket, Drive Size 1 In., Number of Points 12, ...; Manufacturer Part Number: 8197; Current Rating: 30.0 A; Pin Pitch: 0.0020066 m; Lead-Free Status: Lead Free; Number of Contacts: 6; Gender: Male; REACH SVHC Compliance: No SVHC; Orientation: Straight; Contact Material: Brass; Size-Height: 0.011684 m; Contact Plating: Tin; Number of Rows: 2; RoHS: Compliant; Mounting Style: Snap-In, PCB; Termination Style: Screw
footprint Keystone 8197 (Wire terminal screw)
pins: 1

## wire teminal, lugs, screw, M4,OT-047-M4
designator J?  (value not drawn)
WRIGHT TOOL 8197 Socket, 1 In Dr, 3-1/8 In, 12 Pt, Std. More details: Socket, Drive Size 1 In., Number of Points 12, ...; Current Rating: 30.0 A; Pin Pitch: 0.0020066 m; Lead-Free Status: Lead Free; Number of Contacts: 4; REACH SVHC Compliance: No SVHC; Orientation: Straight; Contact Material: Brass; Size-Height: 0.011684 m; Contact Plating: Tin; RoHS: Compliant; Mounting Style: Snap-In, PCB; mfg P/N: OT-047-M4; Termination Style: Screw
pins: 1

## Wire Terminal,Quick connect, through hole, Keystone 1287-ST
designator J?
Brass Tin Plate Vertical .250 inch Tab Sturdi-Mount Male Quick-Fit Terminal; Tab Width: 0.250" (6.35mm); Tab Thickness: 0.032" (0.81mm); Tab Length: 0.312" (7.92mm); Insulation: Non-Insulated; mfg P/N: 1287-ST; Terminal Type: Standard; Gender: Male; Length - Overall: 0.552" (14.02mm); Termination: Solder; Mounting Type: Through Hole; Contact Material: Brass; Contact Finish: Tin
footprint Quick connect terminal
pins: 1